# EAGLE library part AD7745 (library wsn)
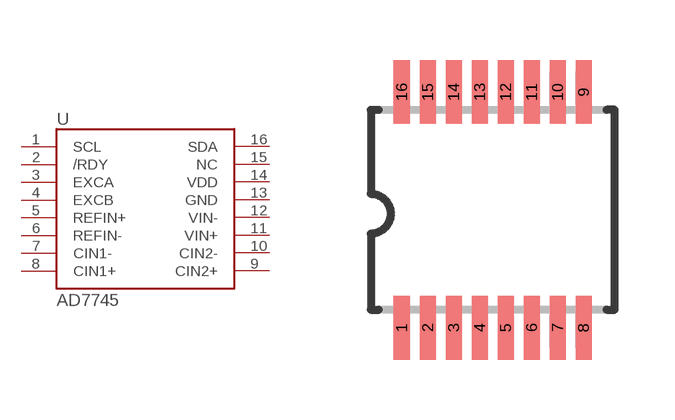
[diagram p142: symbol with the pads of TSSOP16; footprint TSSOP16]

Designator prefix -

## AD7745  [TSSOP16]
1  SCL
2  /RDY
3  EXCA
4  EXCB
5  REFIN+
6  REFIN-
7  CIN1-
8  CIN1+
9  CIN2+
10  CIN2-
11  VIN+
12  VIN-
13  GND
14  VDD
15  NC
16  SDA

## Footprint TSSOP16 (pad centres in mm)
TSOP16 thin small outline package
smd 0.4 x 1.6: 1 -2.225,-2.85; 2 -1.575,-2.85; 3 -0.925,-2.85; 4 -0.275,-2.85; 5 0.375,-2.85; 6 1.025,-2.85; 7 1.675,-2.85; 8 2.325,-2.85; 9 2.325,3.05; 10 1.675,3.05; 11 1.025,3.05; 12 0.375,3.05; 13 -0.275,3.05; 14 -0.925,3.05; 15 -1.575,3.05; 16 -2.225,3.05